# Altium schematic symbol library magcontrol.SCHLIB: 25 symbols
Pins are listed as number, name and electrical type; pins without a type are passive.

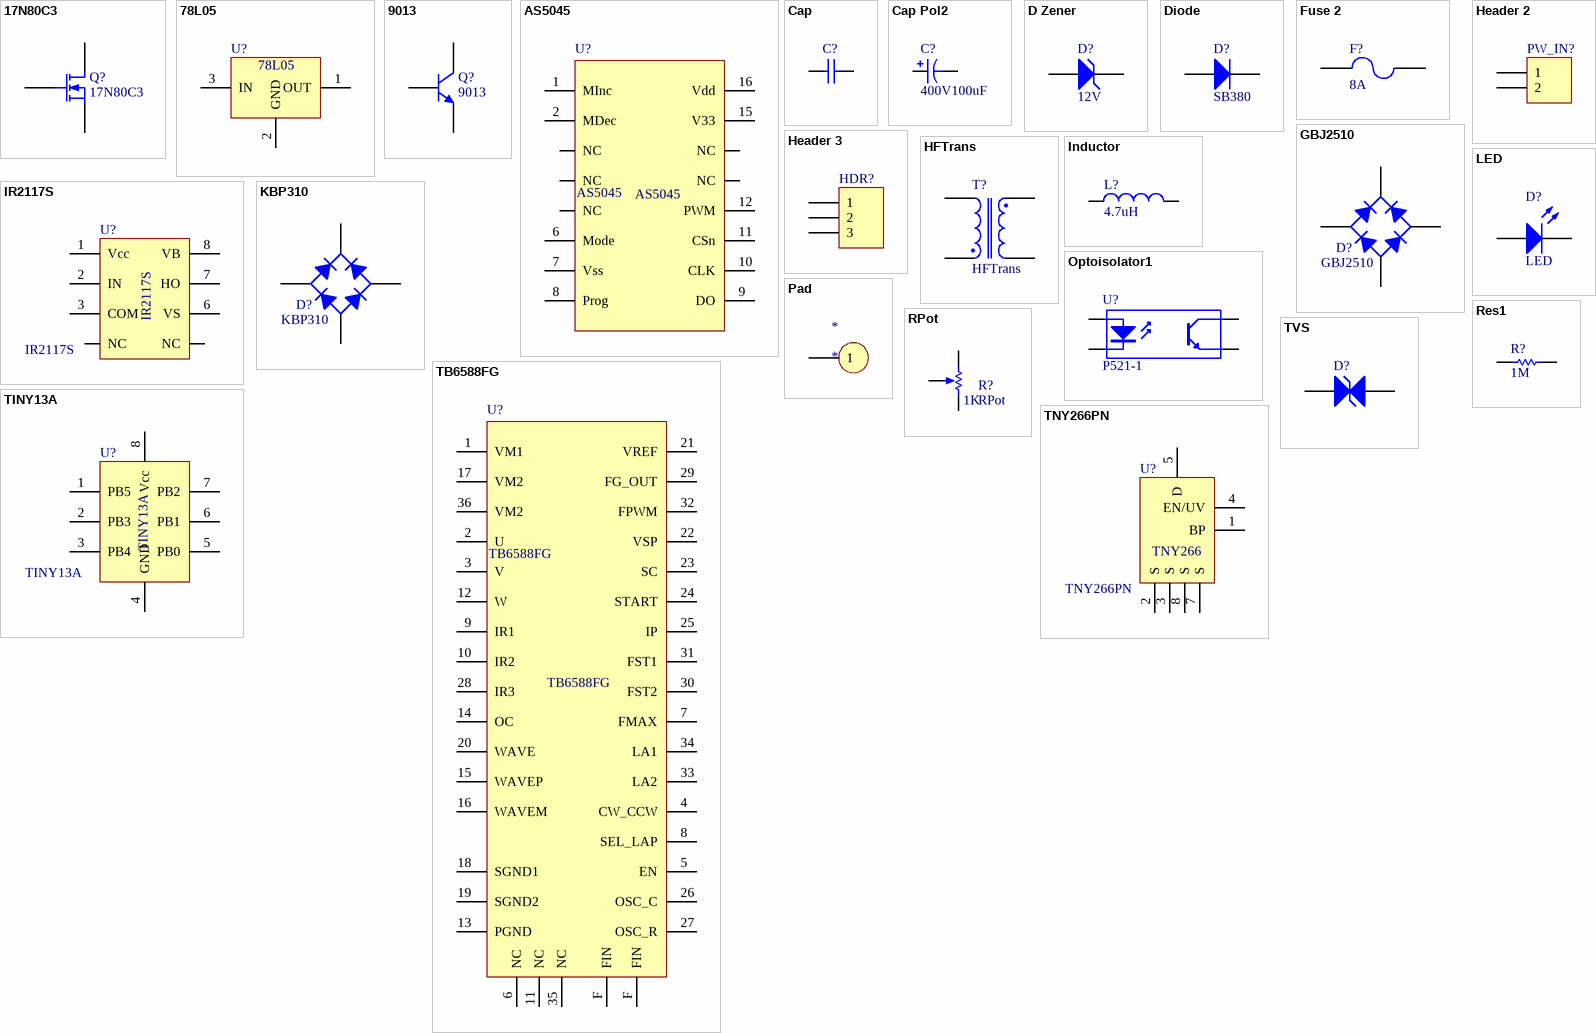
[diagram p0: symbols 17N80C3 to TVS]

## 17N80C3
designator Q?
Published: 8-Jun-2000; LatestRevisionDate: 17-Jul-2002; LatestRevisionNote: Re-released for DXP Platform.; PackageVersion: 1995/1996; PackageReference: E3; Publisher: Altium Limited; PackageDescription: TO, Flat Index; 3 In-Line, Axial Leads; Body Dia. 4.6mm; Lead Dia. 0.5 mm (max)
footprint E3 (TO, Flat Index; 3 In-Line, Axial Leads; Body Dia. 4.6mm; Lead Dia. 0.5 mm (max))
simulation model NMOS (MOSFET-N)
footprint TO-247
pins: 1 G, 2 D, 3 S

## 78L05
designator U?
Positive Voltage Regulator; Published: 24-Aug-2001; LatestRevisionDate: 6-Jun-2005; LatestRevisionNote: PCB pads lengthened.; DatasheetDocument: Apr-1994; PackageDocument: Jun-2004; PackageReference: TO-252; Publisher: Altium Limited; ComponentLink1Description: Manufacturer Link; ComponentLink1URL: http://www.st.com/
footprint TO-92D
pins: 1 OUT (power), 2 GND (power), 3 IN (power)

## 9013
designator Q?
NPN Bipolar Transistor; Published: 8-Jun-2000; LatestRevisionDate: 17-Jul-2002; LatestRevisionNote: Re-released for DXP Platform.; PackageReference: TO-226-AA; Publisher: Altium Limited; PackageDescription: TO, Flat Index; 3 In-Line, Axial Leads; Body Dia. 4.8mm; Leads 0.55 x 0.51 mm (max); Code_JEDEC: TO-226-AA
simulation model NPN
signal-integrity model NPN
footprint TO-92D
pins: 1 E, 2 B, 3 C

## AS5045
designator U?
Magnetic Rotary Encoder
footprint SSOP16 (Footprint not found)
pins: 1 MInc, 2 MDec, 3 NC (power), 4 NC, 5 NC, 6 Mode, 7 Vss, 8 Prog, 9 DO, 10 CLK, 11 CSn, 12 PWM, 13 NC, 14 NC, 15 V33, 16 Vdd

## Cap
designator C?
Capacitor; Published: 8-Jun-2000; LatestRevisionDate: 17-Jul-2002; LatestRevisionNote: Re-released for DXP Platform.; Publisher: Altium Limited
simulation model CAP (Capacitor)
signal-integrity model Cap
footprint CAP4
footprint CAP5 (Capacitor, Ceramic, High Voltage)
footprint CAP6
footprint CAP7
footprint CAP8
pins: 1, 2

## Cap Pol2
designator C?, comment 400V100uF
Polarized Capacitor (Axial); Published: 8-Jun-2000; LatestRevisionDate: 17-Jul-2002; LatestRevisionNote: Re-released for DXP Platform.; Publisher: Altium Limited
footprint CAP1
simulation model CAP (Capacitor)
signal-integrity model Cap Pol
footprint CAP2
footprint CAP3 (Capacitor, Electrolytic, Radial; Body 5 x 6.8 mm (Dia.xH typ); Pin Spacing 2 mm (typ))
pins: 1, 2
1 alternate drawing of the same symbol

## D Zener
designator D?, comment 12V
Zener Diode; Published: 8-Jun-2000; LatestRevisionDate: 17-Jul-2002; LatestRevisionNote: Re-released for DXP Platform.; Publisher: Altium Limited
simulation model ZENER (Diode)
signal-integrity model D Zener
footprint DIO1
footprint DIO2
pins: 1 A, 2 K

## Diode
designator D?, comment SB380
1 Amp Fast Recovery Rectifier; Published: 8-Jun-2000; LatestRevisionDate: 17-Jul-2002; LatestRevisionNote: Re-released for DXP Platform.; DatasheetDocument: 1999; PackageDocument: Aug-1999; PackageReference: DO-41; Publisher: Altium Limited; ComponentLink1Description: Manufacturer Link; ComponentLink1URL: http://www.fairchildsemi.com/; Code_JEDEC: DO-204-AL
simulation model 1N4934 (DIODE)
signal-integrity model 1N4934
footprint DIO1
footprint DIO2
footprint DIO3
pins: 1 A, 2 K

## Fuse 2
designator F?, comment 8A
Fuse; Published: 8-Jun-2000; LatestRevisionDate: 17-Jul-2002; LatestRevisionNote: Re-released for DXP Platform.; Publisher: Altium Limited
footprint FUSE
simulation model FUSE (Spice Subcircuit)
pins: 1, 2

## GBJ2510
designator D?
Single Phase Rectifier Bridge; Published: 8-Jun-2000; LatestRevisionDate: 17-Jul-2002; LatestRevisionNote: Re-released for DXP Platform.; DatasheetDocument: E2753A; PackageReference: D-44; Publisher: Altium Limited; ComponentLink1Description: Manufacturer Link; ComponentLink1URL: http://www.irf.com/
footprint GBJ2510 (SIP; 4 Leads; Body 15 x 17.5 x 6.8 mm (typ); Pitch 3.8 mm)
pins: 1 K, 2 C, 3 C, 4 A

## Header 2
designator PW_IN?
Header, 2-Pin; LatestRevisionDate: 17-Jul-2002; LatestRevisionNote: Re-released for DXP Platform.; Publisher: Altium Limited
footprint HDR1X2 (Connector; Header; 2 Position)
signal-integrity model Connector
footprint Terminal2_1 (Connector; Header; 2 Position)
pins: 1, 2

## Header 3
designator HDR?
Header, 3-Pin; LatestRevisionDate: 17-Jul-2002; LatestRevisionNote: Re-released for DXP Platform.; Publisher: Altium Limited
footprint HDR1X2 (Connector; Header; 2 Position)
signal-integrity model Connector
footprint Terminal2_1 (Connector; Header; 2 Position)
pins: 1, 2, 3

## HFTrans
designator T?
Transformer; Published: 24-Mar-1999; LatestRevisionDate: 17-Jul-2002; LatestRevisionNote: Re-released for DXP Platform.; Publisher: Altium Limited
simulation model TRANSFORMER (Transformer)
footprint EE16
pins: 1, 4, 5, 8

## Inductor
designator L?, comment 4.7uH
Inductor; Code_IEC: 1005; Published: 8-Jun-2000; LatestRevisionDate: 17-Jul-2002; LatestRevisionNote: Re-released for DXP Platform.; PackageReference: 0402-A; Publisher: Altium Limited; Code_JEITA: 0402
simulation model INDUCTOR (Inductor)
signal-integrity model Inductor
footprint INDUCTOR
pins: 1, 2

## IR2117S
designator U?
PI TinySwitch II
footprint DIP-8 (DIP; 8 Leads; Row Spacing 7.62 mm; Pitch 2.54 mm)
pins: 1 Vcc (power), 2 IN (power), 3 COM (power), 4 NC (power), 5 NC (power), 6 VS (power), 7 HO (power), 8 VB (power)

## KBP310
designator D?
Single Phase Rectifier Bridge; Published: 8-Jun-2000; LatestRevisionDate: 17-Jul-2002; LatestRevisionNote: Re-released for DXP Platform.; DatasheetDocument: E2753A; PackageReference: D-44; Publisher: Altium Limited; ComponentLink1Description: Manufacturer Link; ComponentLink1URL: http://www.irf.com/
footprint KBP310
pins: 1 K, 2 C, 3 C, 4 A

## LED
designator D?
Typical INFRARED GaAs LED; Published: 8-Jun-2000; LatestRevisionDate: 08-Jul-2005; LatestRevisionNote: Mech Layer 1 removed.; PackageReference: LED-0; Publisher: Altium Limited; PackageDescription: LED; 2 Leads
simulation model LED0 (Diode)
footprint LED1R
footprint LED1G
footprint LED1Y
footprint LED1B
footprint LED2R
footprint LED2G
footprint LED2Y
footprint LED2B
pins: 1 A, 2 K

## Optoisolator1
designator U?, comment P521-1
4-Pin Phototransistor Optocoupler; Published: 24-Mar-1999; LatestRevisionDate: 4-Mar-2005; LatestRevisionNote: Sch pins 3 & 4 Swapped.; DatasheetDocument: Nov-2003; PackageReference: DIP-4; Publisher: Altium Limited
footprint DIP-4 (DIP; 4 Leads; Row Spacing 7.62 mm; Pitch 2.54 mm)
pins: 1 A "Anode", 2 K "Cathode", 3 E "Emitter", 4 C "Collector"

## Pad
designator *
footprint PAD0
pins: 1

## Res1
designator R?, comment 1M
Resistor; Published: 8-Jun-2000; LatestRevisionDate: 17-Jul-2002; LatestRevisionNote: Re-released for DXP Platform.; Publisher: Altium Limited
simulation model RESISTOR (Resistor)
signal-integrity model Res
footprint RES0.25W (Resistor; 2 Leads)
footprint RES1W (Resistor; 2 Leads)
pins: 1, 2

## RPot
designator R?  value 1K
Potentiometer; Sim Note: Enter the Resistance value and the set point into parameter fields.; Set Position: 0.5; Published: 8-Jun-2000; LatestRevisionDate: 17-Jul-2002; LatestRevisionNote: Re-released for DXP Platform.; PackageReference: VR5; Publisher: Altium Limited; PackageDescription: Variable Resistor, Thru-Hole; 3 Leads
footprint 3296W (Thru-Hole; 3 Leads)
pins: 1, 2, 3
1 alternate drawing of the same symbol

## TB6588FG
designator U?
3-Phase Motor Driver
footprint HSOP36-P-450-0.65
pins: 1 VM1 (power), 2 U, 3 V, 4 CW_CCW, 5 EN, 6 NC, 7 FMAX, 8 SEL_LAP, 9 IR1, 10 IR2, 11 NC, 12 W, 13 PGND (power), 14 OC, 15 WAVEP, 16 WAVEM, 17 VM2 (power), 18 SGND1 (power), 19 SGND2 (power), 20 WAVE, 21 VREF, 22 VSP, 23 SC, 24 START, 25 IP, 26 OSC_C, 27 OSC_R, 28 IR3, 29 FG_OUT, 30 FST2, 31 FST1, 32 FPWM, 33 LA2, 34 LA1, 35 NC, 36 VM2 (power), F FIN, F FIN

## TINY13A
designator U?
PI TinySwitch II
footprint DIP-8 (DIP; 8 Leads; Row Spacing 7.62 mm; Pitch 2.54 mm)
pins: 1 PB5 (power) "RST/ADC0", 2 PB3 (power) "CLKI/ADC3", 3 PB4 (power) "ADC2", 4 GND (power), 5 PB0 (power) "MOSI/OC0A", 6 PB1 (power) "MISO/OC0B", 7 PB2 (power) "SCK/ADC1", 8 Vcc (power)

## TNY266PN
designator U?
PI TinySwitch II
footprint TNY266PN (DIP; 8 Leads; Row Spacing 7.62 mm; Pitch 2.54 mm)
pins: 1 BP (power), 2 S (power), 3 S (power), 4 EN/UV (power), 5 D (power), 7 S (power), 8 S (power)
text: TNY266

## TVS
designator D?
TVS Diode; Published: 8-Jun-2000; LatestRevisionDate: 17-Jul-2002; LatestRevisionNote: Re-released for DXP Platform.; Publisher: Altium Limited
footprint TVS1
pins: 1 A, 2 K